# Altium schematic symbol library DF30FC-40DS-0.4V(82).SchLib: 1 symbol
Pins are listed as number, name and electrical type; pins without a type are passive.

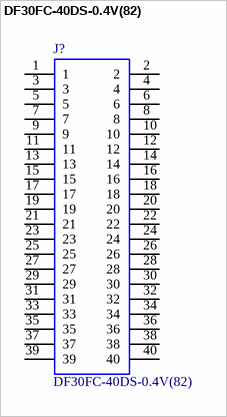
[diagram p0: symbol DF30FC-40DS-0.4V(82)]

## DF30FC-40DS-0.4V(82)
designator J?
Hirose DF30 Series 0.4mm 40 Way 2 Row Straight PCB Socket Surface Mount Board to Board, Board to FPC; Geometry.Height: 1.05mm; Manufacturer_Name: Hirose; Manufacturer_Part_Number: DF30FC-40DS-0.4V(82); RS Part Number: 7008159; RS Price/Stock: http://uk.rs-online.com/web/p/products/7008159; Arrow Part Number: DF30FC-40DS-0.4V(82); Arrow Price/Stock: http://uk.rs-online.com/web/p/products/7008159; Datasheet Link: https://www.hirose.com/product/en/download_file/key_name/DF30FC-40DS-0.4V%2882%29/category/Drawing%20(2D)/doc_file_id/46399/?file_category_id=6&item_id=06841078682&is_series=
footprint DF30FC40DS04V82
pins: 1, 2, 3, 4, 5, 6, 7, 8, 9, 10, 11, 12, 13, 14, 15, 16, 17, 18, 19, 20, 21, 22, 23, 24, 25, 26, 27, 28, 29, 30, 31, 32, 33, 34, 35, 36, 37, 38, 39, 40